# Altium footprint library lib-con.PcbLib: 51 footprints (part 1 of 4)
Each footprint in its own frame and in the unit in brackets; x right, y up, seen from the top. Pads: shape width x height; smd on the part's side, far side on the other; paste and mask are expansions set on the pad; w line width, h text height; cw(c..) or ccw(c..) is an arc to the next point about the centre after c.
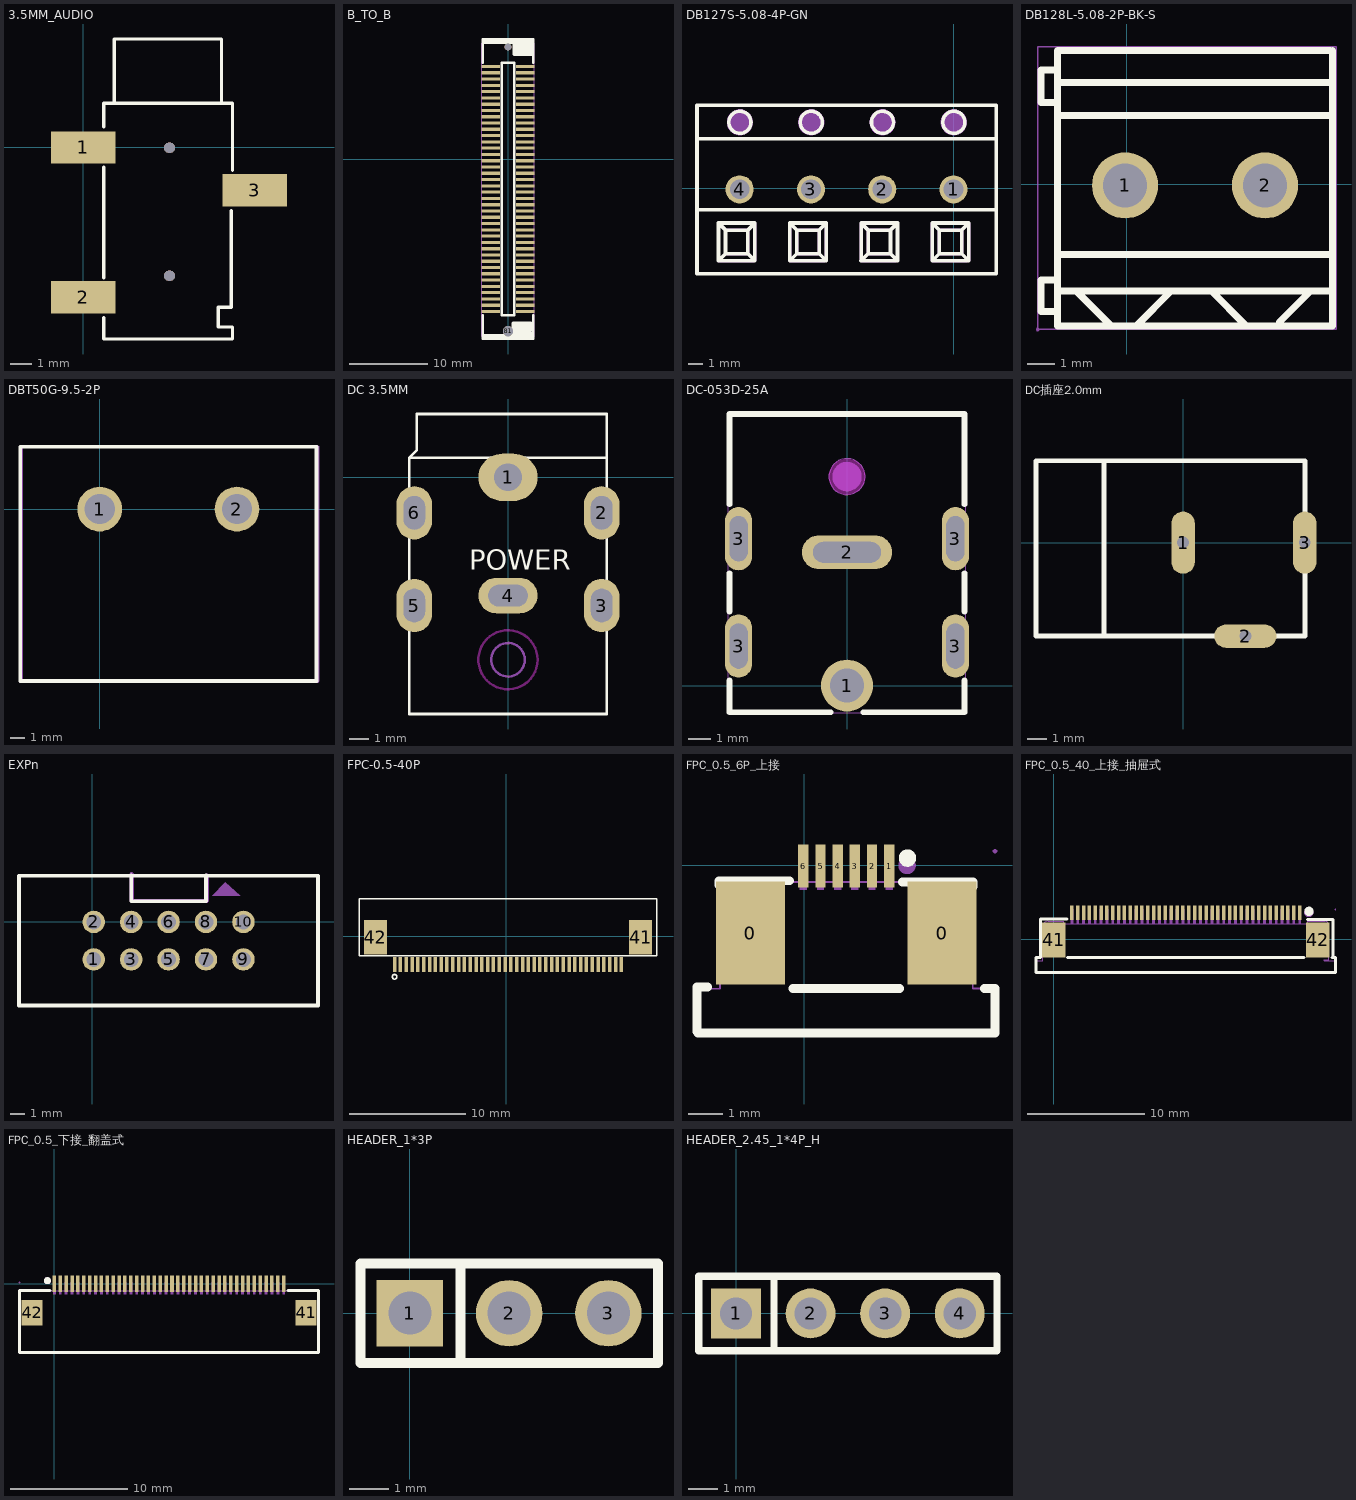
[diagram p0: the footprints below, top view; thin cyan lines are the x and y axes]

## 3.5MM_AUDIO [mm]
pads (3):
  rect 3x1.5 smd: 1(0,0) 2(0,-7) 3(8,-2)
via 4.025,-6 diameter 0.5 hole 0.5
via 4.025,-0.025 diameter 0.5 hole 0.5
Top Overlay:
  lines w0.152: 0.96,-7.946 0.96,-8.946 6.96,-8.946 6.96,-8.382 6.299,-8.382 6.299,-7.468 6.909,-7.468 6.909,-2.946 ; 0.96,-6.096 0.96,-0.914 ; 0.96,0.957 0.96,2.057 6.96,2.057 6.96,-1.067 ; 1.448,2.057 1.448,5.057 6.448,5.057 6.448,2.057

## B_TO_B [mm]
pads (82):
  rect 2.3x0.4 smd mask+0.05: 1(2.2,11.79) 2(-2.2,11.79) 3(2.2,10.99) 4(-2.2,10.99) 5(2.2,10.19) 6(-2.2,10.19) 7(2.2,9.39) 8(-2.2,9.39) 9(2.2,8.59) 10(-2.2,8.59) 11(2.2,7.79) 12(-2.2,7.79) 13(2.2,6.99) 14(-2.2,6.99) 15(2.2,6.19) 16(-2.2,6.19) 17(2.2,5.39) 18(-2.2,5.39) 19(2.2,4.59) 20(-2.2,4.59) 21(2.2,3.79) 22(-2.2,3.79) 23(2.2,2.99) 24(-2.2,2.99) 25(2.2,2.19) 26(-2.2,2.19) 27(2.2,1.39) 28(-2.2,1.39) 29(2.2,0.59) 30(-2.2,0.59) 31(2.2,-0.21) 32(-2.2,-0.21) 33(2.2,-1.01) 34(-2.2,-1.01) 35(2.2,-1.81) 36(-2.2,-1.81) 37(2.2,-2.61) 38(-2.2,-2.61) 39(2.2,-3.41) 40(-2.2,-3.41) 41(2.2,-4.21) 42(-2.2,-4.21) 43(2.2,-5.01) 44(-2.2,-5.01) 45(2.2,-5.81) 46(-2.2,-5.81) 47(2.2,-6.61) 48(-2.2,-6.61) 49(2.2,-7.41) 50(-2.2,-7.41) 51(2.2,-8.21) 52(-2.2,-8.21) 53(2.2,-9.01) 54(-2.2,-9.01) 55(2.2,-9.81) 56(-2.2,-9.81) 57(2.2,-10.61) 58(-2.2,-10.61) 59(2.2,-11.41) 60(-2.2,-11.41) 61(2.2,-12.21) 62(-2.2,-12.21) 63(2.2,-13.01) 64(-2.2,-13.01) 65(2.2,-13.81) 66(-2.2,-13.81) 67(2.2,-14.61) 68(-2.2,-14.61) 69(2.2,-15.41) 70(-2.2,-15.41) 71(2.2,-16.21) 72(-2.2,-16.21) 73(2.2,-17.01) 74(-2.2,-17.01) 75(2.2,-17.81) 76(-2.2,-17.81) 77(2.2,-18.61) 78(-2.2,-18.61) 79(2.2,-19.41) 80(-2.2,-19.41)
  round 1.3 hole 1.3 unplated mask+0.05: 81(0,-21.91)
  round 0.9 hole 0.9 unplated mask+0.064: 82(0,14.29)
Top Overlay:
  lines w0.305: -3.2,-19.91 -3.2,-22.91 3.2,-22.91 3.2,-19.91 ; -3.2,12.29 -3.2,15.29 3.2,15.29 3.2,12.29 ; -0.8,-19.91 0.8,-19.91 0.8,12.29 -0.8,12.29 -0.8,-19.91
  lines w0.5: -3,-22.51 3,-22.51 ; -3,14.89 3,14.89 ; 0.7,-21.71 2.9,-21.71 ; 0.7,-21.31 2.9,-21.31 ; 0.8,13.79 3,13.79 ; 0.8,14.19 3,14.19 ; 2.9,-22.11 0.7,-22.11 0.7,-20.91 2.9,-20.91 ; 3,13.39 0.8,13.39 0.8,14.59 3,14.59
Mechanical 1:
  text "CN2" at -1.654,-4.445 h1.27
Mechanical 16:
  lines w0.025: -3.35,-22.56 3.35,-22.56 3.35,14.74 -3.35,14.74 -3.35,-22.56

## CONN-SMD_2.54-5P-WT [mm]

## DB127S-5.08-4P-GN [mm] "C2997521"
pads (4):
  round 2 hole 1.4 mask+0.05: 1(-0.025,-0.076) 2(-5.105,-0.076) 3(-10.185,-0.076) 4(-15.265,-0.076)
Top Overlay:
  circle w0.254: c-0.006,4.704 r0.786
  circle w0.254: c-5.086,4.704 r0.786
  circle w0.254: c-10.165,4.704 r0.786
  circle w0.254: c-15.245,4.704 r0.786
  lines w0.254: -18.306,-1.54 -13.226,-1.54 3.014,-1.54 ; -18.306,3.534 -13.226,3.534 3.014,3.534 ; -13.224,-6.086 -13.217,-6.076 ; -16.775,-5.176 -14.475,-5.176 -14.175,-5.176 ; -16.775,-5.176 -16.275,-4.676 ; -16.775,-5.176 -16.775,-2.476 ; -16.775,-2.476 -16.275,-2.976 ; -16.775,-2.476 -14.175,-2.476 ; -16.275,-4.676 -14.675,-4.676 ; -16.275,-4.676 -16.275,-2.976 ; -16.275,-2.976 -14.675,-2.976 ; -14.675,-4.676 -14.675,-2.976 ; -14.675,-4.676 -14.175,-5.176 ; -14.675,-2.976 -14.175,-2.476 ; -14.175,-5.176 -14.175,-2.476 ; -13.217,-6.076 3.014,-6.076 3.014,5.925 -13.224,5.925 -18.306,5.925 -18.306,-6.076 -13.217,-6.076 ; -11.696,-5.176 -11.196,-4.676 ; -11.696,-5.176 -9.396,-5.176 -9.096,-5.176 ; -11.696,-5.176 -11.696,-2.476 ; -11.696,-2.476 -11.196,-2.976 ; -11.696,-2.476 -9.096,-2.476 ; -11.196,-4.676 -9.596,-4.676 ; -11.196,-4.676 -11.196,-2.976 ; -11.196,-2.976 -9.596,-2.976 ; -9.596,-4.676 -9.596,-2.976 ; -9.596,-4.676 -9.096,-5.176 ; -9.596,-2.976 -9.096,-2.476 ; -9.096,-5.176 -9.096,-2.476 ; -6.616,-5.176 -6.116,-4.676 ; -6.616,-5.176 -4.316,-5.176 -4.016,-5.176 ; -6.616,-5.176 -6.616,-2.476 ; -6.616,-2.476 -6.116,-2.976 ; -6.616,-2.476 -4.016,-2.476 ; -6.116,-4.676 -4.516,-4.676 ; -6.116,-4.676 -6.116,-2.976 ; -6.116,-2.976 -4.516,-2.976 ; -4.516,-4.676 -4.516,-2.976 ; -4.516,-4.676 -4.016,-5.176 ; -4.516,-2.976 -4.016,-2.476 ; -4.016,-5.176 -4.016,-2.476 ; -1.536,-5.176 -1.036,-4.676 ; -1.536,-5.176 0.764,-5.176 1.064,-5.176 ; -1.536,-5.176 -1.536,-2.476 ; -1.536,-2.476 -1.036,-2.976 ; -1.536,-2.476 1.064,-2.476 ; -1.036,-4.676 0.564,-4.676 ; -1.036,-4.676 -1.036,-2.976 ; -1.036,-2.976 0.564,-2.976 ; 0.564,-4.676 0.564,-2.976 ; 0.564,-4.676 1.064,-5.176 ; 0.564,-2.976 1.064,-2.476 ; 1.064,-5.176 1.064,-2.476
Mechanical 6:
  drawing of 36 lines, arcs and shapes, not listed
Mechanical 15:
  region: -9.686,-0.326 -10.686,-0.326 -10.686,0.174 -9.686,0.174
  region: -4.606,-0.326 -5.606,-0.326 -5.606,0.174 -4.606,0.174
  region: 0.474,-0.326 -0.526,-0.326 -0.526,0.174 0.474,0.174
  region: -14.766,-0.326 -15.766,-0.326 -15.766,0.174 -14.766,0.174
  region: 3.074,5.924 3.074,5.949 3.039,5.984 2.99,5.984 2.954,5.949 2.954,5.924 2.954,5.899 2.99,5.864 3.039,5.864 3.074,5.899
  lines w0.051: -18.306,-6.076 3.014,-6.076 3.014,5.924 -18.306,5.924 -18.306,-6.076

## DB128L-5.08-2P-BK-S [mm] "C430601"
pads (2):
  round 2.4 hole 1.6 mask+0.051: 1(-0.051,-0.051) 2(5.029,-0.051)
Top Overlay:
  lines w0.254: -2.501,-5.151 -2.501,4.849 7.389,4.849 ; -2.501,-3.889 7.479,-3.889 ; -2.501,-2.519 -2.467,-2.553 7.479,-2.553 ; -2.501,2.489 7.479,2.489 ; -2.501,3.678 7.479,3.678 ; -2.499,-4.623 -3.099,-4.623 -3.099,-3.479 -2.499,-3.479 ; -2.499,2.952 -3.099,2.952 -3.099,4.141 -2.499,4.141 ; -2.471,-5.151 7.479,-5.151 7.479,4.849 ; -1.788,-3.889 -1.788,-3.917 -0.594,-5.111 ; 0.397,-5.111 0.397,-5.108 1.616,-3.889 ; 2.962,-3.889 3.087,-3.889 4.308,-5.111 ; 5.553,-5.111 5.553,-5.012 6.677,-3.889
Mechanical 15:
  region: 5.729,-0.051 5.729,0.041 5.682,0.219 5.589,0.379 5.459,0.509 5.299,0.602 5.121,0.649 4.937,0.649 4.759,0.602 4.599,0.509 4.469,0.379 4.377,0.219 4.329,0.041 4.329,-0.051 4.329,-0.143 4.377,-0.321 4.469,-0.481 4.599,-0.611 4.759,-0.703 4.937,-0.751 5.121,-0.751 5.299,-0.703 5.459,-0.611 5.589,-0.481 5.682,-0.321 5.729,-0.143
  region: 0.649,-0.051 0.649,0.041 0.602,0.219 0.509,0.379 0.379,0.509 0.219,0.602 0.041,0.649 -0.143,0.649 -0.321,0.602 -0.481,0.509 -0.611,0.379 -0.703,0.219 -0.751,0.041 -0.751,-0.051 -0.751,-0.143 -0.703,-0.321 -0.611,-0.481 -0.481,-0.611 -0.321,-0.703 -0.143,-0.751 0.041,-0.751 0.219,-0.703 0.379,-0.611 0.509,-0.481 0.602,-0.321 0.649,-0.143
  region: -3.166,-5.278 -3.166,-5.253 -3.201,-5.218 -3.251,-5.218 -3.286,-5.253 -3.286,-5.278 -3.286,-5.303 -3.251,-5.338 -3.201,-5.338 -3.166,-5.303
  lines w0.051: -3.226,-5.278 -3.226,4.976 7.606,4.976 7.606,-5.278 -3.226,-5.278

## DBT50G-9.5-2P [mm]
pads (2):
  round 3.1 hole 2.1 paste+0 mask+0.05: 1(0,0) 2(9.5,0)
Top Overlay:
  lines w0.254: -5.5,-11.9 -5.5,4.3 14.998,4.3 14.998,-11.9 -5.5,-11.9
Mechanical 6:
  region: -5.327,4.3 -5.327,-11.773 14.919,-11.773 14.919,4.3 14.919,4.352 14.994,4.427 15.099,4.427 15.173,4.352 15.173,4.3 15.173,-11.9 15.173,-11.925 15.154,-11.972 15.118,-12.008 15.072,-12.027 15.046,-12.027 -5.454,-12.027 -5.479,-12.027 -5.526,-12.008 -5.561,-11.972 -5.581,-11.925 -5.581,-11.9 -5.581,4.3 -5.581,4.352 -5.506,4.427 -5.401,4.427 -5.327,4.352
Mechanical 15:
  region: -0.75,-0.4 -0.75,0.4 0.75,0.4 0.75,-0.4
  region: 8.75,-0.4 8.75,0.4 10.25,0.4 10.25,-0.4
  region: -5.44,4.3 -5.44,4.325 -5.475,4.36 -5.525,4.36 -5.56,4.325 -5.56,4.3 -5.56,4.275 -5.525,4.24 -5.475,4.24 -5.44,4.275
  lines w0.051: -5.5,-11.9 15,-11.9 15,4.3 -5.5,4.3 -5.5,-11.9
3D body "DBT50G-9.5-2P.step": height 17.05, standoff -3.55, extent -5.486,-12.008 15.014,4.192

## DC 3.5MM [mm]
pads (6):
  oval 3x2.4 hole 1.4: 1(0,0)
  oval 1.8x2.7 hole 1.09 slot 1.7 at 90 deg: 2(4.75,-1.8) 3(4.75,-6.5) 5(-4.75,-6.5) 6(-4.75,-1.8)
  oval 3x1.8 hole 1.09 slot 2 at 0 deg: 4(0,-6)
Top Overlay:
  lines w0.1: -5,-12 5,-12 5,1 -5,1 -5,-12
  lines w0.127: -5,1 -4.622,1.378 -4.622,3.208 5,3.208 5,1 ; -5,1 5,1 ; -5,1 -5,-12 5,-12 5,1
  text "POWER" at -1.955,-4.679 h1.02
Keep-Out Layer:
  circle w0.127: c0,-9.25 r1.5
Mechanical 1:
  circle w0.127: c0,-9.25 r0.85

## DC-053D-25A [mm]
pads (6):
  round 2.3 hole 1.5 paste+0 mask+0.05: 1(0,0)
  oval 4x1.5 hole 0.914 slot 3 at 0 deg paste+0 mask+0.05: 2(0,5.9)
  oval 1.2x2.8 hole 0.8 slot 2 at 90 deg paste+0 mask+0.05: 3(-4.8,1.75) 3(-4.8,6.5) 3(4.8,1.75) 3(4.8,6.5)
Top Overlay:
  lines w0.254: -5.2,0.222 -5.2,-1.18 -0.715,-1.18 ; -5.2,3.278 -5.2,4.972 ; -5.2,8.028 -5.2,12.02 5.2,12.02 5.2,8.028 ; 0.715,-1.18 5.2,-1.18 5.2,0.222 ; 5.2,3.278 5.2,4.972
Keep-Out Layer:
  board cut-out: 0.8,9.25 0.8,9.356 0.745,9.559 0.64,9.741 0.491,9.89 0.309,9.996 0.105,10.05 -0.105,10.05 -0.309,9.996 -0.491,9.89 -0.64,9.741 -0.745,9.559 -0.8,9.356 -0.8,9.25 -0.8,9.145 -0.745,8.941 -0.64,8.759 -0.491,8.61 -0.309,8.505 -0.105,8.45 0.105,8.45 0.309,8.505 0.491,8.61 0.64,8.759 0.745,8.941 0.8,9.145
Mechanical 1:
  circle w0.005: c0,9.25 r0.8
Mechanical 6:
  circle w0.65: c0,9.25 r0.325
Mechanical 15:
  region: -5,7.1 -4.6,7.1 -4.6,5.9 -5,5.9
  region: -5,2.35 -4.6,2.35 -4.6,1.15 -5,1.15
  region: 4.6,2.35 5,2.35 5,1.15 4.6,1.15
  region: 4.6,7.1 5,7.1 5,5.9 4.6,5.9
  region: -1,6.15 1,6.15 1,5.65 -1,5.65
  region: 0.475,0 0.475,0.095 0.403,0.269 0.269,0.403 0.094,0.475 -0.094,0.475 -0.269,0.403 -0.403,0.269 -0.475,0.095 -0.475,0 -0.475,-0.094 -0.403,-0.269 -0.269,-0.403 -0.094,-0.475 0.094,-0.475 0.269,-0.403 0.403,-0.269 0.475,-0.094
  region: 5.31,-1.199 5.31,-1.174 5.275,-1.139 5.225,-1.139 5.19,-1.174 5.19,-1.199 5.19,-1.224 5.225,-1.259 5.275,-1.259 5.31,-1.224
  lines w0.051: -5.25,-1.199 5.25,-1.199 5.25,12.001 -5.25,12.001 -5.25,-1.199

## DC插座2.0mm [mm]
pads (3):
  oval 1.2x3.2 hole 0.6 square: 1(0,0) 3(6.25,0)
  oval 3.2x1.2 hole 0.6 square: 2(3.2,-4.8)
Top Overlay:
  lines w0.254: -4.05,-4.8 -4.05,-0.3 -4.05,4.2 ; -7.55,-4.8 -7.55,4.2 6.25,4.2 6.25,0 6.25,-4.8 3.2,-4.8 -7.55,-4.8

## EXPn [mil]
pads (10):
  round 60 hole 39.37 paste+0 mask+1.97: 1(4,-100) 2(4,0) 3(104,-100) 4(104,0) 5(204,-100) 6(204,0) 7(304,-100) 8(304,0) 9(404,-100) 10(404,0)
Top Overlay:
  lines w10: 104,122 104,124 104,55 304,55 304,125 302,122 ; -195.6,-223.23 603.61,-223.23 603.61,123.23 -195.6,123.23 -195.6,-223.23
Mechanical 6:
  region: 311.36,123.23 311.36,56.3 311.36,55.3 310.6,53.47 309.19,52.06 307.36,51.3 306.36,51.3 105.58,51.3 104.58,51.3 102.74,52.06 101.34,53.47 100.58,55.3 100.58,56.3 100.58,127.17 100.58,129.24 103.5,132.16 107.65,132.16 110.58,129.24 110.58,127.17 110.58,61.3 301.36,61.3 301.36,123.23 301.36,125.3 304.29,128.23 308.43,128.23 311.36,125.3
  region: 394.94,70.08 320.14,70.08 355.57,105.51
Mechanical 15:
  region: 416.6,-12.6 391.4,-12.6 391.4,12.6 416.6,12.6
  region: 416.6,-112.6 391.4,-112.6 391.4,-87.4 416.6,-87.4
  region: 316.6,-12.6 291.4,-12.6 291.4,12.6 316.6,12.6
  region: 316.6,-112.6 291.4,-112.6 291.4,-87.4 316.6,-87.4
  region: 216.6,-12.6 191.4,-12.6 191.4,12.6 216.6,12.6
  region: 216.6,-112.6 191.4,-112.6 191.4,-87.4 216.6,-87.4
  region: 116.6,-12.6 91.4,-12.6 91.4,12.6 116.6,12.6
  region: 116.6,-112.6 91.4,-112.6 91.4,-87.4 116.6,-87.4
  region: 16.6,-12.6 -8.6,-12.6 -8.6,12.6 16.6,12.6
  region: 16.6,-112.6 -8.6,-112.6 -8.6,-87.4 16.6,-87.4
  region: 601.24,123.23 601.24,122.25 602.62,120.87 604.58,120.87 605.96,122.25 605.96,123.23 605.96,124.21 604.58,125.59 602.62,125.59 601.24,124.21
  lines w2: -195.61,-223.23 -195.61,123.23 603.61,123.23 603.61,-223.23 -195.61,-223.23
3D body "简易牛角座.step": height 364.96, standoff -114.17, extent -195,-228.21 605,120.21

## FPC-0.5-40P [mm]
pads (42):
  rect 0.3x1.3 smd: 1(-9.598,-2.432) 2(-9.098,-2.432) 3(-8.598,-2.432) 4(-8.098,-2.432) 5(-7.598,-2.432) 6(-7.098,-2.432) 7(-6.598,-2.432) 8(-6.098,-2.432) 9(-5.598,-2.432) 10(-5.098,-2.432) 11(-4.598,-2.432) 12(-4.098,-2.432) 13(-3.598,-2.432) 14(-3.098,-2.432) 15(-2.598,-2.432) 16(-2.098,-2.432) 17(-1.598,-2.432) 18(-1.098,-2.432) 19(-0.598,-2.432) 20(-0.098,-2.432) 21(0.402,-2.432) 22(0.902,-2.432) 23(1.402,-2.432) 24(1.902,-2.432) 25(2.402,-2.432) 26(2.902,-2.432) 27(3.402,-2.432) 28(3.902,-2.432) 29(4.402,-2.432) 30(4.902,-2.432) 31(5.402,-2.432) 32(5.902,-2.432) 33(6.402,-2.432) 34(6.902,-2.432) 35(7.402,-2.432) 36(7.902,-2.432) 37(8.402,-2.432) 38(8.902,-2.432) 39(9.402,-2.432) 40(9.902,-2.432)
  rect 2x3 smd: 41(11.552,-0.082) 42(-11.248,-0.082)
Top Overlay:
  circle w0.127: c-9.598,-3.482 r0.2
  lines w0.127: -12.648,-1.682 12.952,-1.682 12.952,3.218 -12.648,3.218 -12.648,-1.682

## FPC_0.5_6P_上接 [mm]
pads (8):
  rect 2x3 smd mask+0.051: 0(-1.565,-1.978) 0(4.015,-1.978)
  rect 0.3x1.25 smd mask+0.051: 1(2.475,-0.025) 2(1.975,-0.025) 3(1.475,-0.025) 4(0.975,-0.025) 5(0.475,-0.025) 6(-0.025,-0.025)
Top Overlay:
  circle w0.254: c3.007,0.209 r0.127
  lines w0.254: -3.123,-4.849 -3.123,-3.549 -2.814,-3.549 ; -3.105,-4.888 5.555,-4.888 5.555,-3.588 5.246,-3.588 ; -2.493,-0.581 -2.493,-0.449 -0.424,-0.449 ; -0.334,-3.588 2.784,-3.588 ; 2.856,-0.488 4.925,-0.488 4.925,-0.619
Mechanical 6:
  circle w0.254: c2.995,-0.008 r0.127
Mechanical 15:
  region: -0.125,-0.708 -0.125,-0.108 0.075,-0.108 0.075,-0.708
  region: 0.375,-0.708 0.375,-0.108 0.575,-0.108 0.575,-0.708
  region: 0.875,-0.708 0.875,-0.108 1.075,-0.108 1.075,-0.708
  region: 1.375,-0.708 1.375,-0.108 1.575,-0.108 1.575,-0.708
  region: 1.875,-0.708 1.875,-0.108 2.075,-0.108 2.075,-0.708
  region: 2.375,-0.708 2.375,-0.108 2.575,-0.108 2.575,-0.708
  region: -2.315,-0.728 -0.815,-0.728 -0.815,-3.228 -2.315,-3.228
  region: 3.265,-0.728 4.765,-0.728 4.765,-3.228 3.265,-3.228
  region: 2.375,0.412 2.575,0.412 2.575,-0.188 2.375,-0.188
  region: 1.875,0.412 2.075,0.412 2.075,-0.188 1.875,-0.188
  region: 1.375,0.412 1.575,0.412 1.575,-0.188 1.375,-0.188
  region: 0.875,0.412 1.075,0.412 1.075,-0.188 0.875,-0.188
  region: 0.375,0.412 0.575,0.412 0.575,-0.188 0.375,-0.188
  region: -0.125,0.412 0.075,0.412 0.075,-0.188 -0.125,-0.188
  region: 5.615,0.412 5.615,0.437 5.58,0.472 5.53,0.472 5.495,0.437 5.495,0.412 5.495,0.387 5.53,0.352 5.58,0.352 5.615,0.387
  lines w0.051: -3.095,-4.898 5.555,-4.898 5.555,-3.588 4.905,-3.588 4.905,-0.488 -2.445,-0.488 -2.455,-0.478 -2.455,-3.598 -3.095,-3.598 -3.095,-4.898

## FPC_0.5_40_上接_抽屉式 [mm]
pads (42):
  rect 0.3x1.25 smd mask+0.05: 1(21.04,2.274) 2(20.54,2.274) 3(20.04,2.274) 4(19.54,2.274) 5(19.04,2.274) 6(18.54,2.274) 7(18.04,2.274) 8(17.54,2.274) 9(17.04,2.274) 10(16.54,2.274) 11(16.04,2.274) 12(15.54,2.274) 13(15.04,2.274) 14(14.54,2.274) 15(14.04,2.274) 16(13.54,2.274) 17(13.04,2.274) 18(12.54,2.274) 19(12.04,2.274) 20(11.54,2.274) 21(11.04,2.274) 22(10.54,2.274) 23(10.04,2.274) 24(9.54,2.274) 25(9.04,2.274) 26(8.54,2.274) 27(8.04,2.274) 28(7.54,2.274) 29(7.04,2.274) 30(6.54,2.274) 31(6.04,2.274) 32(5.54,2.274) 33(5.04,2.274) 34(4.54,2.274) 35(4.04,2.274) 36(3.54,2.274) 37(3.04,2.274) 38(2.54,2.274) 39(2.04,2.274) 40(1.54,2.274)
  rect 2x3 smd mask+0.05: 41(0,-0.051) 42(22.58,-0.051)
Top Overlay:
  circle w0.4: c21.84,2.392 r0.2
  lines w0.254: -1.231,-1.553 -1.53,-1.553 -1.53,-2.845 24.11,-2.845 24.11,-1.553 23.811,-1.553 ; -1.16,-1.553 -1.16,1.722 1.12,1.722 ; 1.15,-1.548 21.41,-1.548 ; 21.71,1.682 23.91,1.682 23.91,-1.553
Mechanical 6:
  circle w0.4: c21.82,2.292 r0.2
Mechanical 15:
  drawing of 111 lines, arcs and shapes, not listed

## FPC_0.5_下接_翻盖式 [mm]
pads (42):
  rect 0.3x1.4 smd mask+0.05: 1(0,0) 2(0.5,0) 3(1,0) 4(1.5,0) 5(2,0) 6(2.5,0) 7(3,0) 8(3.5,0) 9(4,0) 10(4.5,0) 11(5,0) 12(5.5,0) 13(6,0) 14(6.5,0) 15(7,0) 16(7.5,0) 17(8,0) 18(8.5,0) 19(9,0) 20(9.5,0) 21(10,0) 22(10.5,0) 23(11,0) 24(11.5,0) 25(12,0) 26(12.5,0) 27(13,0) 28(13.5,0) 29(14,0) 30(14.5,0) 31(15,0) 32(15.5,0) 33(16,0) 34(16.5,0) 35(17,0) 36(17.5,0) 37(18,0) 38(18.5,0) 39(19,0) 40(19.5,0)
  rect 1.8x2.2 smd mask+0.05: 41(21.4,-2.463) 42(-1.9,-2.463)
Top Overlay:
  circle w0.3: c-0.6,0.262 r0.15
  lines w0.254: -0.381,-0.57 -2.89,-0.57 -2.95,-0.57 -2.95,-4.138 -2.95,-5.838 22.45,-5.838 22.45,-4.138 22.45,-0.57 19.881,-0.57
Mechanical 6:
  circle w0.3: c-0.6,0.262 r0.15
Mechanical 15:
  drawing of 47 lines, arcs and shapes, not listed

## HEADER_1*3P [mm]
pads (3):
  rect 1.7x1.7 hole 1.1: 1(0,0)
  round 1.7 hole 1.1: 2(2.54,0) 3(5.08,0)
Top Overlay:
  lines w0.254: 1.294,-1.27 1.294,1.27 ; 1.294,1.27 6.35,1.27 6.35,-1.27 -1.27,-1.27 -1.27,1.27 1.294,1.27
Mechanical 15:
  region: -1.21,-1.25 -1.21,-1.225 -1.245,-1.19 -1.295,-1.19 -1.33,-1.225 -1.33,-1.25 -1.33,-1.275 -1.295,-1.31 -1.245,-1.31 -1.21,-1.275
  region: -0.32,0.32 0.32,0.32 0.32,-0.32 -0.32,-0.32
  region: 2.22,0.32 2.86,0.32 2.86,-0.32 2.22,-0.32
  region: 4.76,0.32 5.4,0.32 5.4,-0.32 4.76,-0.32
  lines w0.051: 6.35,-1.25 -1.27,-1.25 -1.27,1.25 6.35,1.25

## HEADER_2.45_1*4P_H [mm]
pads (4):
  rect 1.7x1.7 hole 1.1: 1(0,0)
  round 1.7 hole 1.1: 2(2.54,0) 3(5.08,0) 4(7.62,0)
Top Overlay:
  lines w0.254: 1.294,-1.27 1.294,1.27 ; 1.294,1.27 -1.27,1.27 -1.27,-1.27 8.89,-1.27 8.89,1.27 1.294,1.27
Mechanical 15:
  region: 7.3,0.32 7.94,0.32 7.94,-0.32 7.3,-0.32
  region: 4.76,0.32 5.4,0.32 5.4,-0.32 4.76,-0.32
  region: 2.22,0.32 2.86,0.32 2.86,-0.32 2.22,-0.32
  region: -0.32,0.32 0.32,0.32 0.32,-0.32 -0.32,-0.32
  region: -1.21,-1.25 -1.21,-1.225 -1.245,-1.19 -1.295,-1.19 -1.33,-1.225 -1.33,-1.25 -1.33,-1.275 -1.295,-1.31 -1.245,-1.31 -1.21,-1.275
  lines w0.051: -1.27,-1.25 8.89,-1.25 8.89,1.25 -1.27,1.25 -1.27,-1.25